# Altium integrated library R0402.IntLib: 1 symbol
Pins are listed as number, name and electrical type; pins without a type are passive.

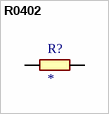
[diagram p0: symbol R0402]

## R0402
designator R?
Reducer,NEMA 1,4 X 2 1/2 | Wiegmann R0402; SnapEDA_Link: https://www.snapeda.com/parts/R0402/Wiegmann/view-part/?ref=snap; Package: None; Value: *; MF: Wiegmann; MP: R0402; Check_prices: https://www.snapeda.com/parts/R0402/Wiegmann/view-part/?ref=eda
footprint 0402
pins: 1, 2